# EAGLE library part AK130/06 (library PTR_AK130)
ANSCHLUSSKLEMME AK130 (6POLIG)
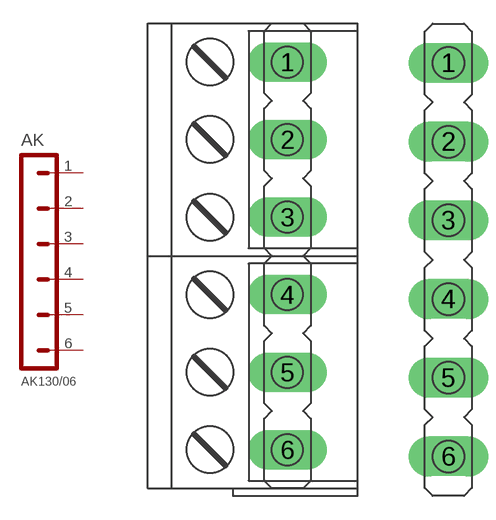
[diagram p0: symbol with the pads of AK06; footprints AK06, STL06]

Designator prefix AK

## AK130/06  [AK06]
1  P$1
2  P$2
3  P$3
4  P$4
5  P$5
6  P$6

## AK130/06_STL  [STL06]
Pads as for AK06

## Footprint AK06 (pad centres in mm)
AK130 (6POLIG) 2x AK130/3-5.0-GRAU STL130/24-5.0-V-SCHWARZ
drill 1.5 pad 2.54 long: 1 0,12.5; 2 0,7.5; 3 0,2.5; 4 0,-2.5; 5 0,-7.5; 6 0,-12.5

## Footprint STL06 (pad centres in mm)
STL130 (6POLIG) STL130/24-5.0-V-SCHWARZ
drill 1.5 pad 2.54 long: 1 0,12.5; 2 0,7.5; 3 0,2.5; 4 0,-2.5; 5 0,-7.5; 6 0,-12.5